# EAGLE library part 1X06_HEADER (library Preston_ME433)
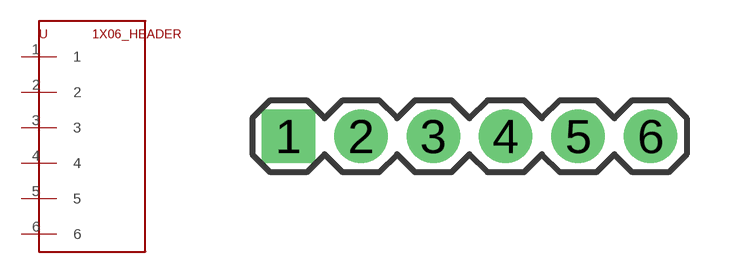
[diagram p1: symbol with the pads of 1X06; footprint 1X06]

Designator prefix -

## 1X06_HEADER  [1X06]
1  1
2  2
3  3
4  4
5  5
6  6

## Footprint 1X06 (pad centres in mm)
drill 1.016 pad 1.88 square: 1 0,0
drill 1.016 pad 1.88 round: 2 2.54,0; 3 5.08,0; 4 7.62,0; 5 10.16,0; 6 12.7,0